# EAGLE library part ACS712 (library FSAE Eletric)
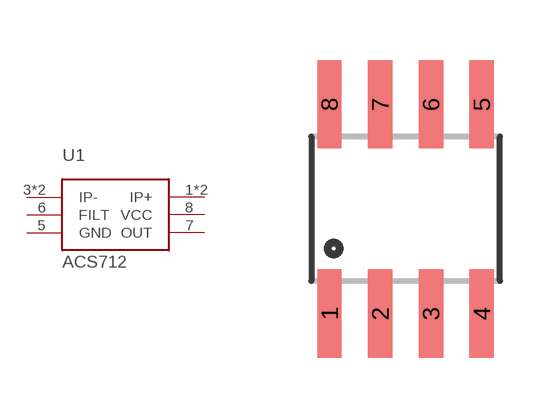
[diagram p12: symbol with the pads of SO-8; footprint SO-8]

Designator prefix U1

## ACS712  [SO-8]
1  IP+
2  IP+
3  IP-
4  IP-
5  GND
6  FILT
7  OUT
8  VCC

## Footprint SO-8 (pad centres in mm)
smd 0.61 x 2.21: 1 -1.905,-2.616; 2 -0.635,-2.616; 3 0.635,-2.616; 4 1.905,-2.616; 5 1.905,2.616; 6 0.635,2.616; 7 -0.635,2.616; 8 -1.905,2.616